# Altium footprint library RasPagerADF7012.PcbLib: 2 footprints
Each footprint in its own frame and in the unit in brackets; x right, y up, seen from the top. Pads: shape width x height; smd on the part's side, far side on the other; paste and mask are expansions set on the pad; w line width, h text height; cw(c..) or ccw(c..) is an arc to the next point about the centre after c.
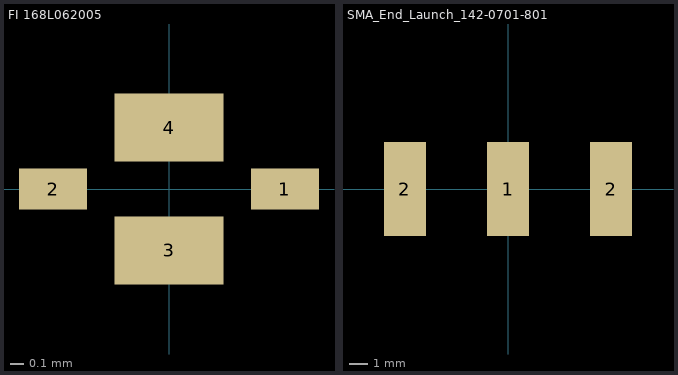
[diagram p0: the footprints below, top view; thin cyan lines are the x and y axes]

## FI 168L062005 [mm] "Band Pass Filter"
height 1
pads (4):
  rect 0.5x0.3 smd: 1(0.85,0) 2(-0.85,0)
  rect 0.8x0.5 smd: 3(0,-0.45) 4(0,0.45)

## SMA_End_Launch_142-0701-801 [mil]
height 393.7
pads (3):
  rect 90x200 smd: 1(0,0)
  rect 90x200 all layers, no hole: 2(-220,0) 2(220,0)